# Altium footprint library 703W-00_53.PcbLib: 1 footprints
Each footprint in its own frame and in the unit in brackets; x right, y up, seen from the top. Pads: shape width x height; smd on the part's side, far side on the other; paste and mask are expansions set on the pad; w line width, h text height; cw(c..) or ccw(c..) is an arc to the next point about the centre after c.
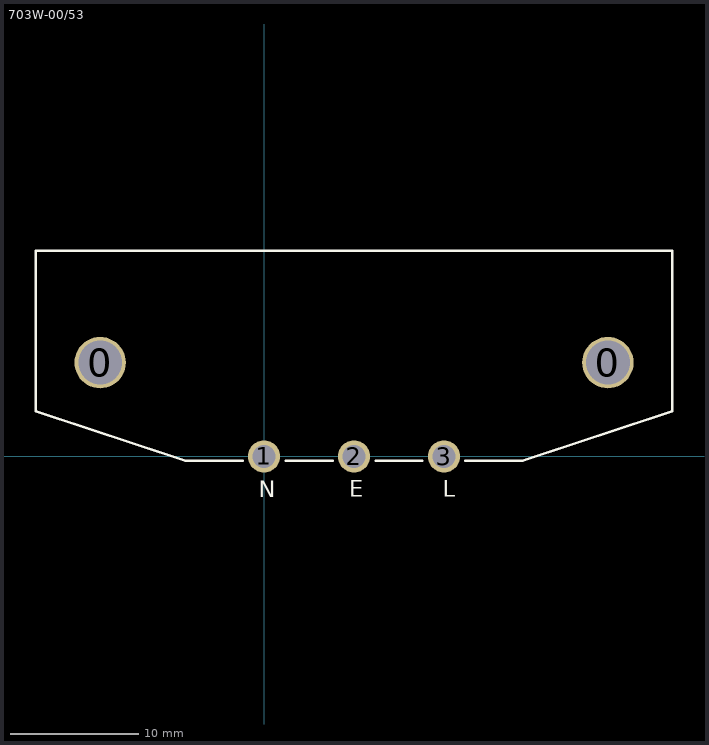
[diagram p0: the footprint, top view; thin cyan lines are the x and y axes]

## 703W-00/53 [mm] "IEC 320-C14 power connector"
pads (5):
  round 4 hole 3.4: 0(-12.75,7.3) 0(26.75,7.3)
  round 2.5 hole 1.8: 1(0,0) 2(7,0) 3(14,0)
Top Overlay:
  lines w0.2: -17.755,3.505 -6.121,-0.33 -1.676,-0.33 ; -17.75,3.505 -17.75,16 31.75,16 31.75,3.505 20.117,-0.33 15.672,-0.33 ; 1.702,-0.33 5.334,-0.33 ; 8.687,-0.33 12.319,-0.33
  text "L" at 13.894,-3.15 h1.27
  text "E" at 6.629,-3.15 h1.27
  text "N" at -0.406,-3.175 h1.27